# Altium footprint library 901200130.PcbLib: 1 footprints
Each footprint in its own frame and in the unit in brackets; x right, y up, seen from the top. Pads: shape width x height; smd on the part's side, far side on the other; paste and mask are expansions set on the pad; w line width, h text height; cw(c..) or ccw(c..) is an arc to the next point about the centre after c.
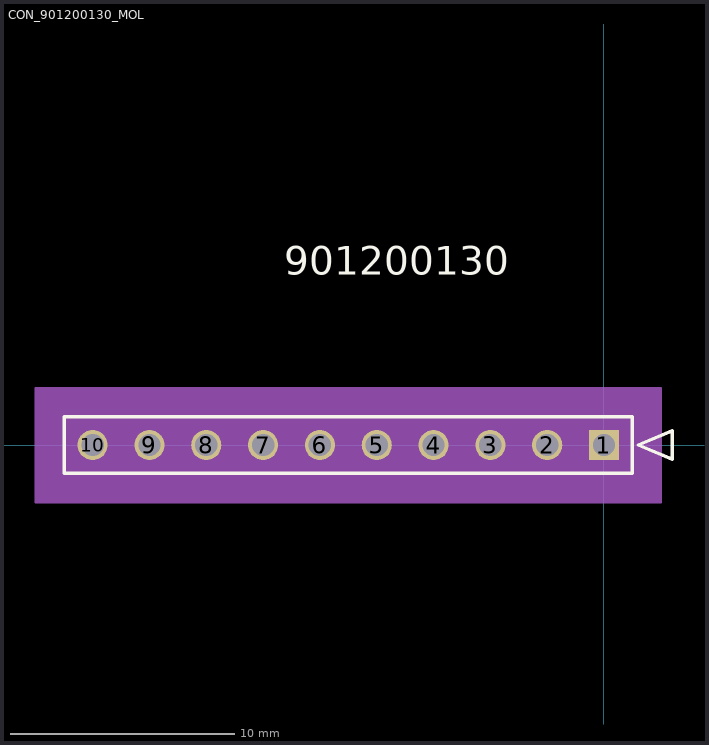
[diagram p0: the footprint, top view; thin cyan lines are the x and y axes]

## CON_901200130_MOL [mm]
pads (10):
  rect 1.35x1.35 hole 1 mask+0.076: 1(0,0)
  round 1.35 hole 1 mask+0.076: 2(-2.54,0) 3(-5.08,0) 4(-7.62,0) 5(-10.16,0) 6(-12.7,0) 7(-15.24,0) 8(-17.78,0) 9(-20.32,0) 10(-22.86,0)
Top Overlay:
  lines w0.152: -24.13,-1.27 -24.13,1.27 1.27,1.27 1.27,-1.27 -24.13,-1.27 ; 1.524,0 3.048,0.635 3.048,-0.635 1.524,0
  text "901200130" at -14.287,7.62 h1.27
Mechanical 5:
  region: -24.511,1.651 1.651,1.651 1.651,-1.651 -24.511,-1.651
Mechanical 13:
  lines w0.127: -24.13,-1.27 1.27,-1.27 1.27,1.27 -24.13,1.27 -24.13,-1.27 ; 1.524,0 3.048,0.635 3.048,-0.635 1.524,0
  text "901200130" at -14.287,7.62 h1.27
Mechanical 15:
  region: 2.54,2.54 -25.4,2.54 -25.4,-2.54 2.54,-2.54
  lines w0.127: -25.4,-2.54 -25.4,2.54 2.54,2.54 2.54,-2.54 -25.4,-2.54
3D body: height 0.25, standoff 0, extent 0,0 0.254,0.254